# Altium schematic symbol library LED_ORANGE.SCHLIB: 1 symbol
Pins are listed as number, name and electrical type; pins without a type are passive.

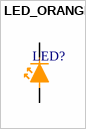
[diagram p0: symbol LED_ORANGE]

## LED_ORANGE
designator LED?
pins: 1 A, 2 C